# Altium schematic symbol library MF-MSMF150_24X-2.SchLib: 1 symbol
Pins are listed as number, name and electrical type; pins without a type are passive.

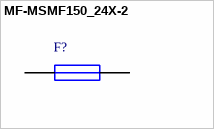
[diagram p0: symbol MF-MSMF150_24X-2]

## MF-MSMF150_24X-2
designator F?
Bourns 1.5A Surface Mount Resettable Fuse, 24 V; Manufacturer_Part_Number: MF-MSMF150/24X-2; Geometry.Height: 1.6mm; Manufacturer_Name: Bourns; Mouser Part Number: 652-MF-MSMF150/24X-2; Mouser Price/Stock: https://www.mouser.co.uk/ProductDetail/Bourns/MF-MSMF150-24X-2?qs=lpAV6hZbGAs42fzz5zPn3Q%3D%3D; Arrow Part Number: MF-MSMF150/24X-2; Arrow Price/Stock: https://www.arrow.com/en/products/mf-msmf15024x-2/bourns; Mouser Testing Part Number: *; Mouser Testing Price/Stock: *; Datasheet Link: https://www.bourns.com/docs/Product-Datasheets/mfmsmf.pdf
footprint FUSC4632X160N
pins: 1, 2